# Altium footprint library 2450FB15L0001E.PcbLib: 2 footprints
Each footprint in its own frame and in the unit in brackets; x right, y up, seen from the top. Pads: shape width x height; smd on the part's side, far side on the other; paste and mask are expansions set on the pad; w line width, h text height; cw(c..) or ccw(c..) is an arc to the next point about the centre after c.
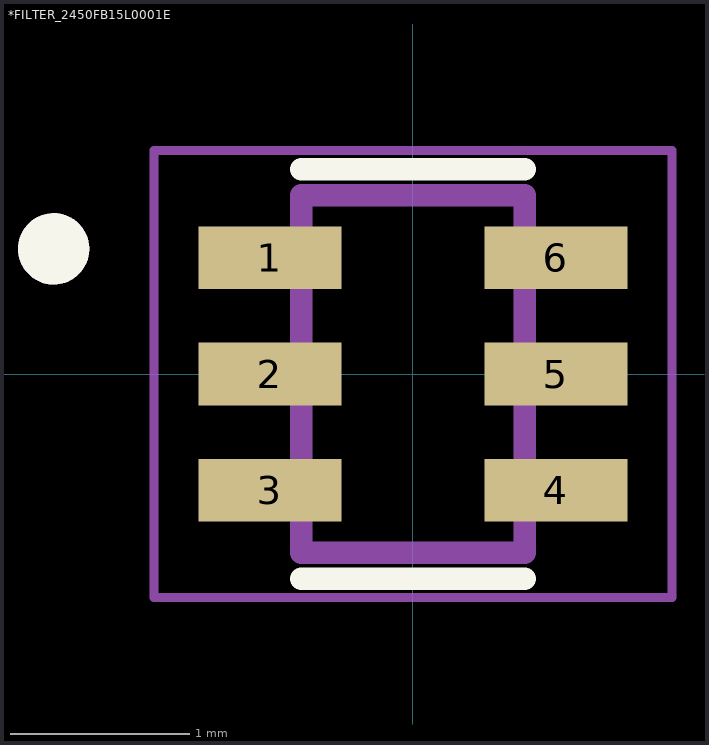
[diagram p0: the footprints below, top view; thin cyan lines are the x and y axes]

## *FILTER_2450FB15L0001E [mm]
pads (6):
  rect 0.8x0.35 smd: 1(-0.8,0.65) 2(-0.8,0) 3(-0.8,-0.65) 4(0.8,-0.65) 5(0.8,0) 6(0.8,0.65)
Top Overlay:
  circle w0.2: c-2.01,0.7 r0.1
  lines w0.127: -0.625,-1.145 0.625,-1.145 ; -0.625,1.145 0.625,1.145
Mechanical 4:
  circle w0.2: c-2.01,0.7 r0.1
  circle w0.2: c-2.01,0.7 r0.1
  lines w0.127: -0.625,-1 0.625,-1 ; -0.625,-1 -0.625,1 ; -0.625,-1 0.625,-1 ; -0.625,-1 -0.625,1 ; -0.625,1 0.625,1 ; -0.625,1 0.625,1 ; 0.625,-1 0.625,1 ; 0.625,-1 0.625,1
Mechanical 16:
  lines w0.05: -1.45,-1.25 -1.45,1.25 1.45,1.25 1.45,-1.25 -1.45,-1.25

## PCBComponent_1 [mm]